# Altium schematic symbol library STM32F765IIT6.Schlib: 1 symbol
Pins are listed as number, name and electrical type; pins without a type are passive.

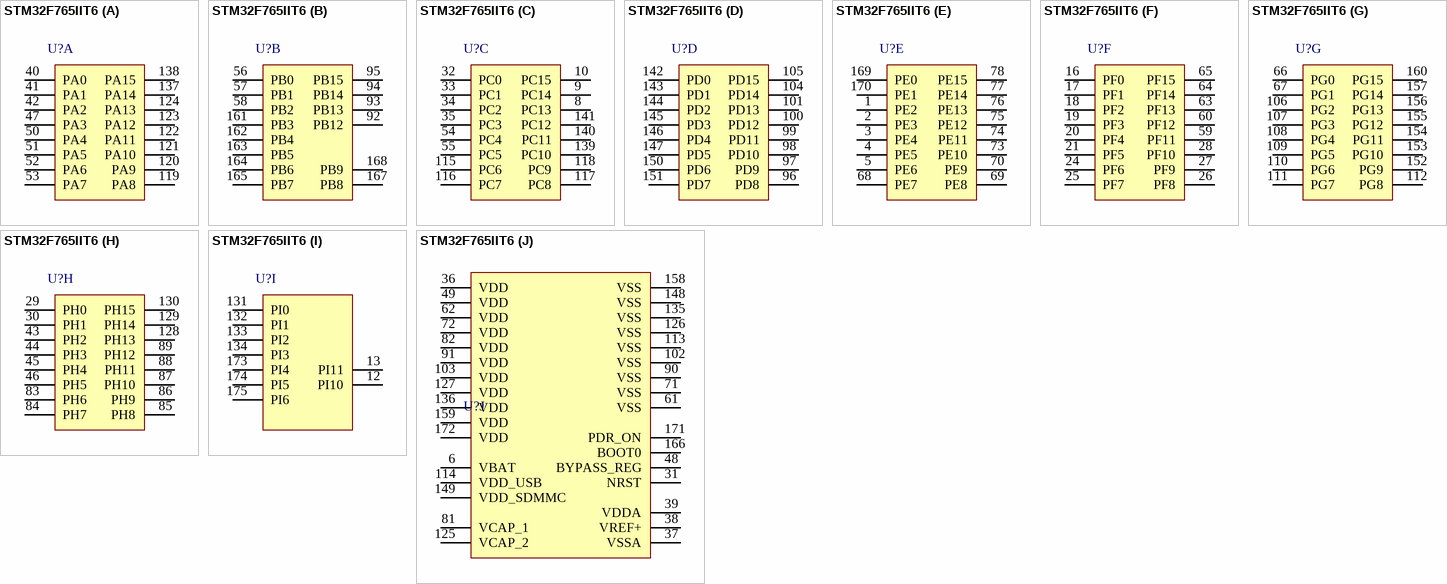
[diagram p0: symbol STM32F765IIT6]

## STM32F765IIT6
designator U?  (value not drawn)
STM32 ARM Cortex-M7, 176-pins
part A pins: 40 PA0, 41 PA1, 42 PA2, 47 PA3, 50 PA4, 51 PA5, 52 PA6, 53 PA7, 119 PA8, 120 PA9, 121 PA10, 122 PA11, 123 PA12, 124 PA13, 137 PA14, 138 PA15
part B pins: 56 PB0, 57 PB1, 58 PB2, 92 PB12, 93 PB13, 94 PB14, 95 PB15, 161 PB3, 162 PB4, 163 PB5, 164 PB6, 165 PB7, 167 PB8, 168 PB9
part C pins: 8 PC13, 9 PC14, 10 PC15, 32 PC0, 33 PC1, 34 PC2, 35 PC3, 54 PC4, 55 PC5, 115 PC6, 116 PC7, 117 PC8, 118 PC9, 139 PC10, 140 PC11, 141 PC12
part D pins: 96 PD8, 97 PD9, 98 PD10, 99 PD11, 100 PD12, 101 PD13, 104 PD14, 105 PD15, 142 PD0, 143 PD1, 144 PD2, 145 PD3, 146 PD4, 147 PD5, 150 PD6, 151 PD7
part E pins: 1 PE2, 2 PE3, 3 PE4, 4 PE5, 5 PE6, 68 PE7, 69 PE8, 70 PE9, 73 PE10, 74 PE11, 75 PE12, 76 PE13, 77 PE14, 78 PE15, 169 PE0, 170 PE1
part F pins: 16 PF0, 17 PF1, 18 PF2, 19 PF3, 20 PF4, 21 PF5, 24 PF6, 25 PF7, 26 PF8, 27 PF9, 28 PF10, 59 PF11, 60 PF12, 63 PF13, 64 PF14, 65 PF15
part G pins: 66 PG0, 67 PG1, 106 PG2, 107 PG3, 108 PG4, 109 PG5, 110 PG6, 111 PG7, 112 PG8, 152 PG9, 153 PG10, 154 PG11, 155 PG12, 156 PG13, 157 PG14, 160 PG15
part H pins: 29 PH0, 30 PH1, 43 PH2, 44 PH3, 45 PH4, 46 PH5, 83 PH6, 84 PH7, 85 PH8, 86 PH9, 87 PH10, 88 PH11, 89 PH12, 128 PH13, 129 PH14, 130 PH15
part I pins: 12 PI10, 13 PI11, 131 PI0, 132 PI1, 133 PI2, 134 PI3, 173 PI4, 174 PI5, 175 PI6
part J pins: 6 VBAT, 31 NRST, 36 VDD, 37 VSSA, 38 VREF+, 39 VDDA, 48 BYPASS_REG, 49 VDD, 61 VSS, 62 VDD, 71 VSS, 72 VDD, 81 VCAP_1, 82 VDD, 90 VSS, 91 VDD, 102 VSS, 103 VDD, 113 VSS, 114 VDD_USB, 125 VCAP_2, 126 VSS, 127 VDD, 135 VSS, 136 VDD, 148 VSS, 149 VDD_SDMMC, 158 VSS, 159 VDD, 166 BOOT0, 171 PDR_ON, 172 VDD